# EAGLE library part W25X40CLUXIG_TR (library W25X40CLUXIG_TR)
Spiflash, 4m-Bit, 4kb Uniform Se
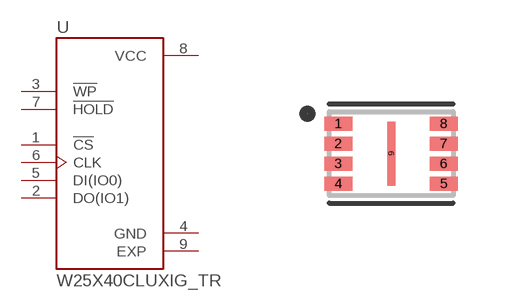
[diagram p0: symbol with the pads of PSON50P300X200X60-9N; footprint PSON50P300X200X60-9N]

Designator prefix U

## W25X40CLUXIG_TR (DESCRIPTION: Spiflash, 4m-Bit, 4kb Uniform Se; DIGI-KEY_PART_NUMBER: W25X40CLUXIGCT-ND; DIGI-KEY_PURCHASE_URL: https://www.digikey.com/product-detail/en/winbond-electronics/W25X40CLUXIG-TR/W25X40CLUXIGCT-ND/5764888?utm_source=snapeda&utm_medium=aggregator&utm_campaign=symbol; MF: Winbond Electronics; MP: W25X40CLUXIG TR; PACKAGE: UFDFN-8 Winbond)  [PSON50P300X200X60-9N]
1  !CS  in
2  DO(IO1)
3  !WP  in
4  GND  pwr
5  DI(IO0)
6  CLK  in
7  !HOLD  in
8  VCC  pwr
9  EXP  pwr

## Footprint PSON50P300X200X60-9N (pad centres in mm)
smd 0.7 x 0.35: 1 -1.32,0.75; 2 -1.32,0.25; 3 -1.32,-0.25; 4 -1.32,-0.75; 5 1.32,-0.75; 6 1.32,-0.25; 7 1.32,0.25; 8 1.32,0.75
smd 0.2 x 1.6: 9 0,0